# Altium schematic symbol library LNK304.Schlib: 1 symbol
Pins are listed as number, name and electrical type; pins without a type are passive.

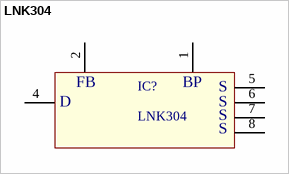
[diagram p0: symbol LNK304]

## LNK304
designator IC?
Offline switcher IC
pins: 1 BP, 2 FB, 4 D, 5 S, 6 S, 7 S, 8 S